# Altium footprint library CPC1017N.PcbLib: 1 footprints
Each footprint in its own frame and in the unit in brackets; x right, y up, seen from the top. Pads: shape width x height; smd on the part's side, far side on the other; paste and mask are expansions set on the pad; w line width, h text height; cw(c..) or ccw(c..) is an arc to the next point about the centre after c.
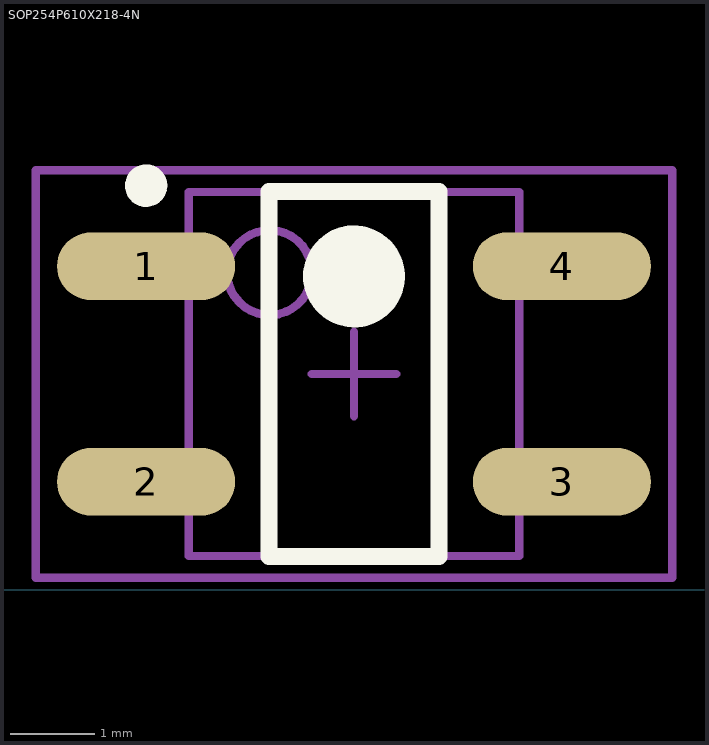
[diagram p0: the footprint, top view; thin cyan lines are the x and y axes]

## SOP254P610X218-4N [mm] "SOP, 4-Leads, Body 4.3x3.9mm (max), Pitch 2.54mm, IPC Medium Density"
height 2.184
pads (4):
  oval 2.1x0.8 smd: 1(-7.35,3.81) 2(-7.35,1.27) 3(-2.45,1.27) 4(-2.45,3.81)
Top Overlay:
  circle w0.6: c-4.9,3.69 r0.3
  circle w0.25: c-7.35,4.76 r0.125
  lines w0.2: -5.9,0.39 -3.9,0.39 -3.9,4.69 -5.9,4.69 -5.9,0.39
Mechanical 13:
  circle w0.1: c-5.895,3.735 r0.5
  lines w0.1: -6.845,0.395 -2.955,0.395 -2.955,4.685 -6.845,4.685 -6.845,0.395
Mechanical 15:
  lines w0.1: -5.4,2.54 -4.4,2.54 ; -4.9,2.04 -4.9,3.04 ; -8.65,0.14 -1.15,0.14 -1.15,4.94 -8.65,4.94 -8.65,0.14
3D body: height 2.18, standoff 0.1, extent -6.845,0.395 -2.955,4.685